# EAGLE library part ARDUINO_MICRO (library controller)
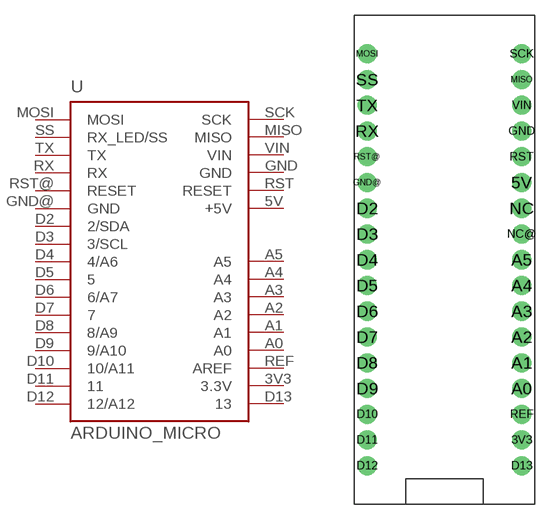
[diagram p0: symbol with the pads of ARDUINO_MICRO; footprint ARDUINO_MICRO]

Designator prefix -

## ARDUINO_MICRO  [ARDUINO_MICRO]
3V3  3.3V
5V  +5V
A0  A0
A1  A1
A2  A2
A3  A3
A4  A4
A5  A5
D2  2/SDA
D3  3/SCL
D4  4/A6
D5  5
D6  6/A7
D7  7
D8  8/A9
D9  9/A10
D10  10/A11
D11  11
D12  12/A12
D13  13
GND  GND
GND@  GND
MISO  MISO
MOSI  MOSI
REF  AREF
RST  RESET
RST@  RESET
RX  RX
SCK  SCK
SS  RX_LED/SS
TX  TX
VIN  VIN

## Footprint ARDUINO_MICRO (pad centres in mm)
drill 1.016 pad 1.88: 3V3 7.62,-17.78; 5V 7.62,7.62; A0 7.62,-12.7; A1 7.62,-10.16; A2 7.62,-7.62; A3 7.62,-5.08; A4 7.62,-2.54; A5 7.62,0; D2 -7.62,5.08; D3 -7.62,2.54; D4 -7.62,0; D5 -7.62,-2.54; D6 -7.62,-5.08; D7 -7.62,-7.62; D8 -7.62,-10.16; D9 -7.62,-12.7; D10 -7.62,-15.24; D11 -7.62,-17.78; D12 -7.62,-20.32; D13 7.62,-20.32; GND 7.62,12.7; GND@ -7.62,7.62; MISO 7.62,17.78; MOSI -7.62,20.32; NC 7.62,5.08; NC@ 7.62,2.54; REF 7.62,-15.24; RST 7.62,10.16; RST@ -7.62,10.16; RX -7.62,12.7; SCK 7.62,20.32; SS -7.62,17.78; TX -7.62,15.24; VIN 7.62,15.24